# Altium footprint library 色环电阻.PcbLib: 33 footprints (part 2 of 3)
Each footprint in its own frame and in the unit in brackets; x right, y up, seen from the top. Pads: shape width x height; smd on the part's side, far side on the other; paste and mask are expansions set on the pad; w line width, h text height; cw(c..) or ccw(c..) is an arc to the next point about the centre after c.
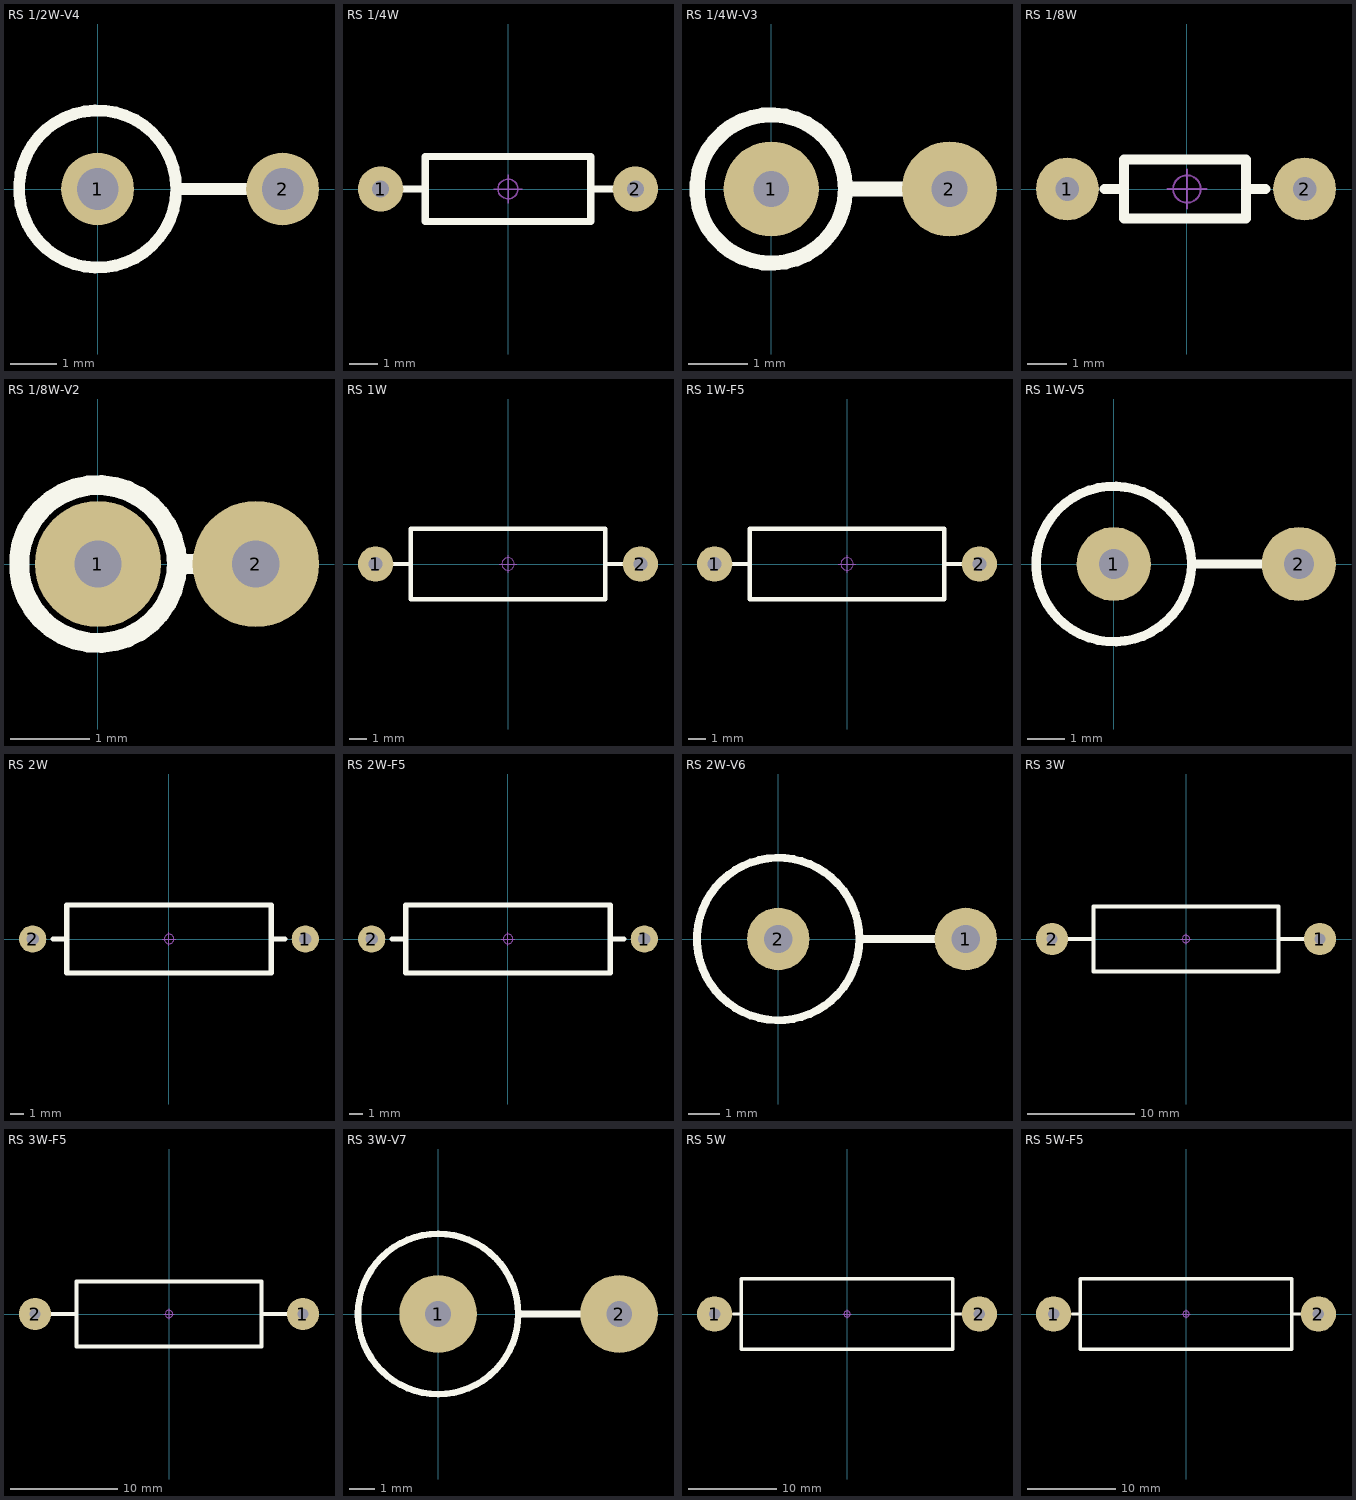
[diagram p1: the footprints below, top view; thin cyan lines are the x and y axes]

## RS 1/2W-V4 [mil] "直插色环电阻，脚距4mm，直径3mm"
pads (2):
  round 62 hole 35.43: 1(0,0) 2(157.48,0)
Top Overlay:
  circle w10: c0,0 r66.93
  lines w10: 66.93,0 133.86,0
Mechanical 15:
  circle w1.97: c0,0 r13.78
  lines w1.97: -19.68,0 19.68,0 ; 0,-19.68 0,19.68
3D body "RS 1-2W-V4.STEP": height 423.17, standoff -137.89, extent -59.44,-59.44 167.33,59.46

## RS 1/4W [mm] "直插色环电阻，脚距9mm，直径2.3mm"
pads (2):
  round 1.6 hole 0.6: 1(-4.5,0) 2(4.5,0)
Top Overlay:
  lines w0.254: -3.683,0 -3.048,0 ; 3.048,0 3.683,0 ; -2.921,-1.143 2.921,-1.143 2.921,1.143 -2.921,1.143 -2.921,-1.143
Mechanical 15:
  circle w0.05: c0,0 r0.35
  lines w0.05: -0.5,0 0.5,0 ; 0,-0.5 0,0.5
3D body "RS 1-4W.STEP": height 2.32, standoff -3.49, extent -4.725,-1.16 4.725,1.16

## RS 1/4W-V3 [mm] "直插色环电阻，脚距3mm，直径2.3mm"
pads (2):
  round 1.6 hole 0.6: 1(0,0) 2(3,0)
Top Overlay:
  circle w0.254: c0,0 r1.25
  lines w0.254: 1.25,0 2.5,0
Mechanical 15:
  circle w0.05: c0,0 r0.35
  lines w0.05: -0.5,0 0.5,0 ; 0,-0.5 0,0.5
3D body "RS 1-4W-V3.STEP": height 7.42, standoff -3.5, extent -1.16,-1.16 3.225,1.16

## RS 1/8W [mm] "直插色环电阻，脚距6mm，直径1.5mm"
pads (2):
  round 1.6 hole 0.6: 1(-3.048,0) 2(3,0)
Top Overlay:
  lines w0.254: -2.1,0 -1.6,0 ; 2,0 1.5,0 ; -1.6,0 -1.6,-0.75 1.5,-0.75 1.5,0 ; -1.6,0 -1.6,0.75 1.5,0.75 1.5,0
Mechanical 15:
  circle w0.05: c0,0 r0.35
  lines w0.05: -0.5,0 0.5,0 ; 0,-0.5 0,0.5
3D body "RS 1-8W.STEP": height 1.52, standoff -3.49, extent -3.225,-0.757 3.225,0.757

## RS 1/8W-V2 [mm] "直插色环电阻，脚距2mm，直径1.5mm"
pads (2):
  round 1.6 hole 0.6: 1(0,0) 2(2,0)
Top Overlay:
  circle w0.254: c0,0 r1
  lines w0.254: 1,0 2,0
Mechanical 15:
  circle w0.05: c0,0 r0.35
  lines w0.05: -0.5,0 0.5,0 ; 0,-0.5 0,0.5
3D body "RS 1-8W-V2.STEP": height 4.02, standoff -3.65, extent -0.757,-0.757 2.225,0.757

## RS 1W [mm] "直插色环电阻，脚距15mm，直径4mm"
pads (2):
  round 2 hole 0.8: 1(-7.5,0) 2(7.5,0)
Top Overlay:
  lines w0.254: -6.5,0 -5.5,0 ; 5.5,0 6.5,0 ; -5.5,-2 -5.5,2 5.5,2 5.5,-2 -5.5,-2
Mechanical 15:
  circle w0.05: c0,0 r0.35
  lines w0.05: -0.5,0 0.5,0 ; 0,-0.5 0,0.5
3D body "RS 1W.STEP": height 4.11, standoff -3.4, extent -7.8,-2.01 7.8,2.01

## RS 1W-F5 [mm] "直插色环电阻，脚距15mm，直径4mm，浮空5mm"
pads (2):
  round 2 hole 0.8: 1(-7.5,0) 2(7.5,0)
Top Overlay:
  lines w0.254: -6.5,0 -5.5,0 ; 5.5,0 6.5,0 ; -5.5,-2 5.5,-2 5.5,2 -5.5,2 -5.5,-2
Mechanical 15:
  circle w0.05: c0,0 r0.35
  lines w0.05: -0.5,0 0.5,0 ; 0,-0.5 0,0.5
3D body "RS 1W-F5.STEP": height 9.01, standoff -3.5, extent -7.8,-2.01 7.8,2.01

## RS 1W-V5 [mm] "直插色环电阻，脚距5mm，直径4mm"
pads (2):
  round 2 hole 0.8: 1(0,0) 2(5,0)
Top Overlay:
  circle w0.254: c0,0 r2.1
  lines w0.254: 2.1,0 4.2,0
Mechanical 15:
  circle w0.05: c0,0 r0.35
  lines w0.05: -0.5,0 0.5,0 ; 0,-0.5 0,0.5
3D body "RS 1W-V5.STEP": height 13.3, standoff -3.5, extent -2.01,-2.01 5.3,2.01

## RS 2W [mm] "直插色环电阻，脚距20mm，直径5mm"
pads (2):
  round 2 hole 0.9: 1(10,0) 2(-10,0)
Top Overlay:
  lines w0.381: -8.5,0 -7.5,0 ; 7.628,0 8.5,0 ; -7.5,-2.5 7.5,-2.5 7.5,2.5 -7.5,2.5 -7.5,-2.5
Mechanical 15:
  circle w0.05: c0,0 r0.35
  lines w0.05: -0.5,0 0.5,0 ; 0,-0.5 0,0.5
3D body "RS 2W.STEP": height 5.11, standoff -3.4, extent -10.4,-2.51 10.4,2.51

## RS 2W-F5 [mm] "直插色环电阻，脚距20mm，直径5mm，浮空5mm"
pads (2):
  round 2 hole 0.9: 1(10,0) 2(-10,0)
Top Overlay:
  lines w0.381: -8.5,0 -7.5,0 ; 7.628,0 8.5,0 ; -7.5,-2.5 7.5,-2.5 7.5,2.5 -7.5,2.5 -7.5,-2.5
Mechanical 15:
  circle w0.05: c0,0 r0.35
  lines w0.05: -0.5,0 0.5,0 ; 0,-0.5 0,0.5
3D body "RS 2W-F5.STEP": height 10.01, standoff -3.5, extent -10.3,-2.51 10.3,2.51

## RS 2W-V6 [mm] "直插色环电阻，脚距6mm，直径5mm"
pads (2):
  round 2 hole 0.9: 1(6,0) 2(0,0)
Top Overlay:
  circle w0.254: c0,0 r2.6
  lines w0.254: 2.6,0 5.2,0
Mechanical 15:
  circle w0.05: c0,0 r0.35
  lines w0.05: -0.5,0 0.5,0 ; 0,-0.5 0,0.5
3D body "RS 2W-V6.STEP": height 17.6, standoff -3.5, extent -2.51,-2.51 6.4,2.51

## RS 3W [mm] "直插色环电阻，脚距25mm，直径6mm"
pads (2):
  round 3 hole 1: 1(12.5,0) 2(-12.5,0)
Top Overlay:
  lines w0.381: -10.922,0 -8.636,0 ; 8.636,0 11.049,0 ; -8.636,-3.048 8.636,-3.048 8.636,3.048 -8.636,3.048 -8.636,-3.048
Mechanical 15:
  circle w0.05: c0,0 r0.35
  lines w0.05: -0.5,0 0.5,0 ; 0,-0.5 0,0.5
3D body "RS 3W.STEP": height 6.11, standoff -3.4, extent -12.9,-3.01 12.9,3.01

## RS 3W-F5 [mm] "直插色环电阻，脚距25mm，直径6mm，浮空5mm"
pads (2):
  round 3 hole 1: 1(12.5,0) 2(-12.5,0)
Top Overlay:
  lines w0.381: -10.922,0 -8.636,0 ; 8.636,0 11.049,0 ; -8.636,-3.048 -8.636,3.048 8.636,3.048 8.636,-3.048 -8.636,-3.048
Mechanical 15:
  circle w0.05: c0,0 r0.35
  lines w0.05: -0.5,0 0.5,0 ; 0,-0.5 0,0.5
3D body "RS 3W-F5.STEP": height 11.01, standoff -3.5, extent -12.9,-3.01 12.9,3.01

## RS 3W-V7 [mm] "直插色环电阻，脚距7mm，直径6mm"
pads (2):
  round 3 hole 1: 1(0,0) 2(7,0)
Top Overlay:
  circle w0.254: c0,0 r3.1
  lines w0.254: 3.1,0 6.2,0
Mechanical 15:
  circle w0.05: c0,0 r0.35
  lines w0.05: -0.5,0 0.5,0 ; 0,-0.5 0,0.5
3D body "RS 3W-V7.STEP": height 19.9, standoff -3.5, extent -3.01,-3.01 7.4,3.01

## RS 5W [mm] "直插色环电阻，脚距30mm，直径8mm"
pads (2):
  round 4 hole 1.3: 1(-15,0) 2(15,0)
Top Overlay:
  lines w0.381: -12.922,0 -12,0 ; 12,0 13,0 ; -12,-4 -12,4 12,4 12,-4 -12,-4
Mechanical 15:
  circle w0.05: c0,0 r0.35
  lines w0.05: -0.5,0 0.5,0 ; 0,-0.5 0,0.5
3D body "RS 5W.STEP": height 8.11, standoff -3.4, extent -15.5,-4.01 15.5,4.01

## RS 5W-F5 [mm] "直插色环电阻，脚距30mm，直径8mm，浮空5mm"
pads (2):
  round 4 hole 1.3: 1(-15,0) 2(15,0)
Top Overlay:
  lines w0.381: -12.922,0 -12,0 ; 12,0 13,0 ; -12,-4 -12,4 12,4 12,-4 -12,-4
Mechanical 15:
  circle w0.05: c0,0 r0.35
  lines w0.05: -0.5,0 0.5,0 ; 0,-0.5 0,0.5
3D body "RS 5W-F5.STEP": height 13.01, standoff -3.5, extent -15.4,-4.01 15.4,4.01